# Altium footprint library PCB_lib.PcbLib: 9 footprints
Each footprint in its own frame and in the unit in brackets; x right, y up, seen from the top. Pads: shape width x height; smd on the part's side, far side on the other; paste and mask are expansions set on the pad; w line width, h text height; cw(c..) or ccw(c..) is an arc to the next point about the centre after c.
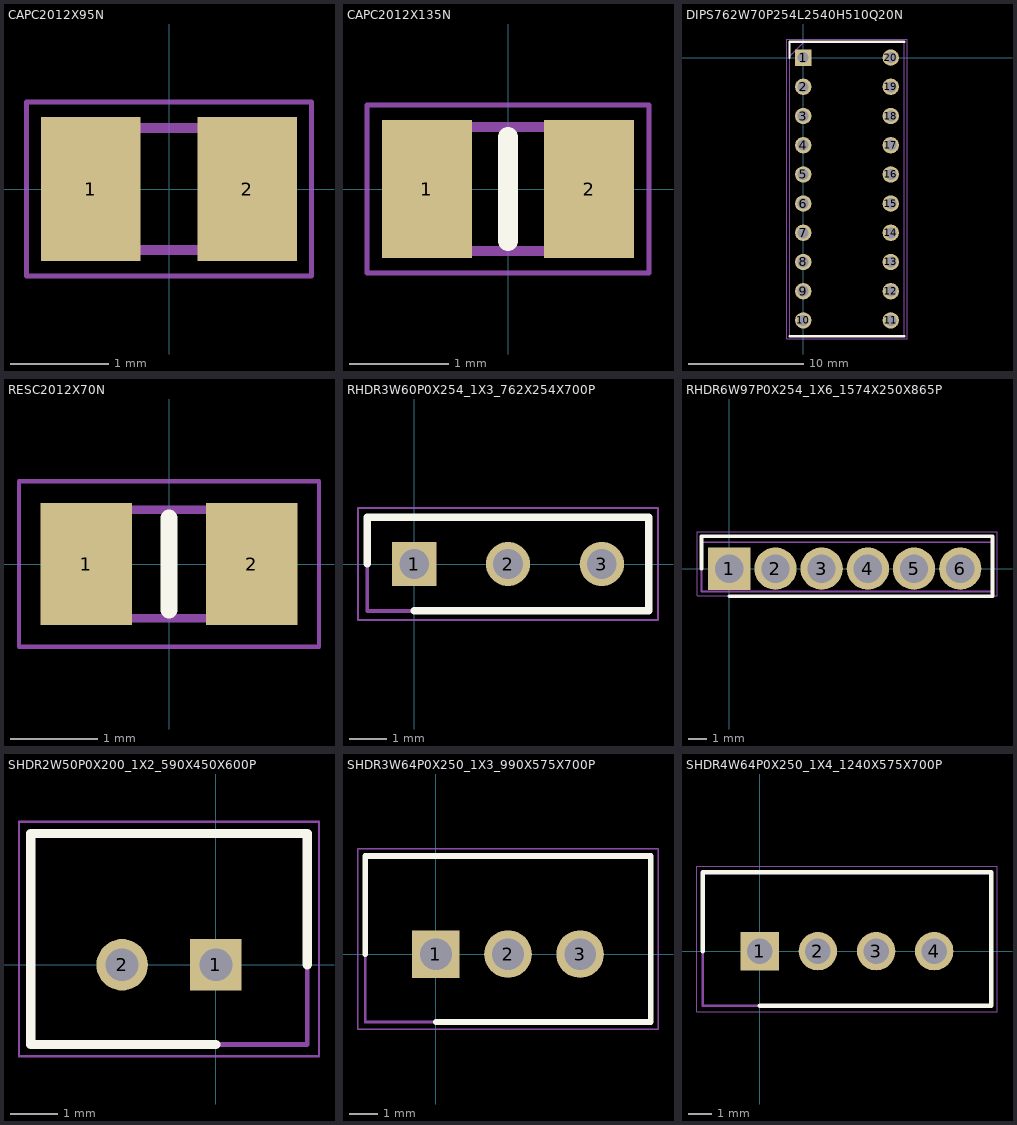
[diagram p0: the footprints below, top view; thin cyan lines are the x and y axes]

## CAPC2012X95N [mm]
pads (2):
  rect 1.02x1.47 smd: 1(-0.8,0) 2(0.8,0)
Mechanical 13:
  lines w0.1: -1,-0.625 1,-0.625 1,0.625 -1,0.625 -1,-0.625
Mechanical 15:
  lines w0.05: -1.46,-0.89 1.46,-0.89 1.46,0.89 -1.46,0.89 -1.46,-0.89
3D body "CC0805KPX7R9BB104.stp": height 0.95, standoff 0, extent -1,-0.625 1,0.625

## CAPC2012X135N [mm]
pads (2):
  rect 0.91x1.39 smd: 1(-0.82,0) 2(0.82,0)
Top Overlay:
  lines w0.2: 0,-0.525 0,0.525
Mechanical 13:
  lines w0.1: -1,-0.625 1,-0.625 1,0.625 -1,0.625 -1,-0.625
Mechanical 15:
  lines w0.05: -1.425,-0.85 1.425,-0.85 1.425,0.85 -1.425,0.85 -1.425,-0.85
3D body "CL21A106KQFNNNG.stp": height 1.35, standoff 0, extent -1,-0.625 1,0.625

## DIPS762W70P254L2540H510Q20N [mm]
pads (20):
  rect 1.425x1.425 hole 0.95: 1(0,0)
  round 1.425 hole 0.95: 2(0,-2.54) 3(0,-5.08) 4(0,-7.62) 5(0,-10.16) 6(0,-12.7) 7(0,-15.24) 8(0,-17.78) 9(0,-20.32) 10(0,-22.86) 11(7.62,-22.86) 12(7.62,-20.32) 13(7.62,-17.78) 14(7.62,-15.24) 15(7.62,-12.7) 16(7.62,-10.16) 17(7.62,-7.62) 18(7.62,-5.08) 19(7.62,-2.54) 20(7.62,0)
Top Overlay:
  lines w0.2: -1.19,-24.23 8.81,-24.23 ; -1.19,0 -1.19,1.37 8.81,1.37
Mechanical 13:
  lines w0.1: -1.19,0.1 0.08,1.37 ; -1.19,-24.23 8.81,-24.23 8.81,1.37 -1.19,1.37 -1.19,-24.23
Mechanical 15:
  lines w0.05: -1.44,-24.48 9.06,-24.48 9.06,1.62 -1.44,1.62 -1.44,-24.48
3D body "1-2199298-6.stp": height 5, standoff -3.1, extent -1.19,-24.13 8.81,1.27

## RESC2012X70N [mm]
pads (2):
  rect 1.05x1.4 smd: 1(-0.95,0) 2(0.95,0)
Top Overlay:
  lines w0.2: 0,-0.525 0,0.525
Mechanical 13:
  lines w0.1: -1,-0.625 1,-0.625 1,0.625 -1,0.625 -1,-0.625
Mechanical 15:
  lines w0.05: -1.725,-0.95 1.725,-0.95 1.725,0.95 -1.725,0.95 -1.725,-0.95
3D body "ERJ-PB6B3002V.stp": height 0.7, standoff 0, extent -1,-0.625 1,0.625

## RHDR3W60P0X254_1X3_762X254X700P [mm]
pads (3):
  rect 1.2x1.2 hole 0.8: 1(0,0)
  round 1.2 hole 0.8: 2(2.54,0) 3(5.08,0)
Top Overlay:
  lines w0.2: -1.27,0 -1.27,1.27 6.35,1.27 6.35,-1.27 0,-1.27
Mechanical 13:
  lines w0.1: -1.27,-1.27 6.35,-1.27 6.35,1.27 -1.27,1.27 -1.27,-1.27
Mechanical 15:
  lines w0.05: -1.52,-1.52 6.6,-1.52 6.6,1.52 -1.52,1.52 -1.52,-1.52
3D body "801-87-003-10-001101.stp": height 7, standoff -3, extent -1.27,-1.27 6.35,1.27

## RHDR6W97P0X254_1X6_1574X250X865P [mm]
pads (6):
  rect 2.325x2.325 hole 1.55: 1(0,0)
  round 2.325 hole 1.55: 2(2.54,0) 3(5.08,0) 4(7.62,0) 5(10.16,0) 6(12.7,0)
Top Overlay:
  lines w0.2: -1.52,0 -1.52,1.775 14.47,1.775 14.47,-1.512 0,-1.512
Mechanical 13:
  lines w0.1: -1.52,-1.25 -1.52,1.45 14.47,1.45 14.47,-1.25 -1.52,-1.25
Mechanical 15:
  lines w0.05: -1.77,-1.5 -1.77,2.025 14.72,2.025 14.72,-1.5 -1.77,-1.5
3D body "61300611821.stp": height 8.65, standoff -3.25, extent -1.52,-1.25 14.22,1.25

## SHDR2W50P0X200_1X2_590X450X600P [mm]
pads (2):
  rect 1.1x1.1 hole 0.7: 1(0,0)
  round 1.1 hole 0.7: 2(-2,0)
Top Overlay:
  lines w0.2: 0,-1.7 -3.95,-1.7 -3.95,2.8 1.95,2.8 1.95,0
Mechanical 13:
  lines w0.1: -3.95,-1.7 -3.95,2.8 1.95,2.8 1.95,-1.7 -3.95,-1.7
Mechanical 15:
  lines w0.05: -4.2,-1.95 -4.2,3.05 2.2,3.05 2.2,-1.95 -4.2,-1.95
3D body "B2B-PH-K-S_LF__SN_.stp": height 6, standoff -3.4, extent -3.95,-2.25 1.95,2.25

## SHDR3W64P0X250_1X3_990X575X700P [mm]
pads (3):
  rect 1.65x1.65 hole 1.1: 1(0,0)
  round 1.65 hole 1.1: 2(2.5,0) 3(5,0)
Top Overlay:
  lines w0.2: -2.45,0 -2.45,3.4 7.45,3.4 7.45,-2.35 0,-2.35
Mechanical 13:
  lines w0.1: -2.45,-2.35 7.45,-2.35 7.45,3.4 -2.45,3.4 -2.45,-2.35
Mechanical 15:
  lines w0.05: -2.7,-2.6 7.7,-2.6 7.7,3.65 -2.7,3.65 -2.7,-2.6
3D body "B3B-XH-A__LF__SN_.stp": height 7, standoff -3.4, extent -2.45,-2.875 7.45,2.875

## SHDR4W64P0X250_1X4_1240X575X700P [mm]
pads (4):
  rect 1.65x1.65 hole 1.1: 1(0,0)
  round 1.65 hole 1.1: 2(2.5,0) 3(5,0) 4(7.5,0)
Top Overlay:
  lines w0.2: -2.45,0 -2.45,3.4 9.95,3.4 9.95,-2.35 0,-2.35
Mechanical 13:
  lines w0.1: -2.45,-2.35 9.95,-2.35 9.95,3.4 -2.45,3.4 -2.45,-2.35
Mechanical 15:
  lines w0.05: -2.7,-2.6 10.2,-2.6 10.2,3.65 -2.7,3.65 -2.7,-2.6
3D body "B4B-XH-A__LF__SN_.stp": height 7, standoff -3.4, extent -2.45,-2.875 9.95,2.875